# Altium integrated library FanLiIntLib.IntLib: 2 symbols
Pins are listed as number, name and electrical type; pins without a type are passive.

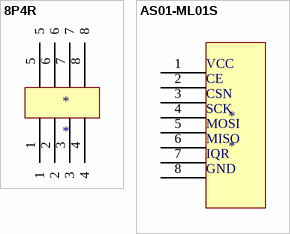
[diagram p0: symbols 8P4R to AS01-ML01S]

## 8P4R
designator *
贴片排阻
pins: 1, 2, 3, 4, 5, 6, 7, 8

## AS01-ML01S
designator *
贴片2.4G模块
footprint AS01-ML01S
pins: 1 VCC, 2 CE, 3 CSN, 4 SCK, 5 MOSI, 6 MISO, 7 IQR, 8 GND